# EAGLE library part BMP384 (library BMP384)
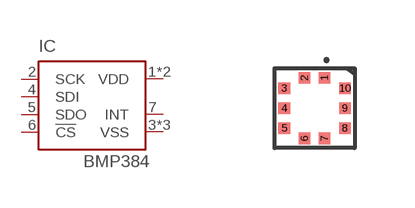
[diagram p0: symbol with the pads of BMP384; footprint BMP384]

Designator prefix IC

## BMP384  [BMP384]
1  VDD
2  SCK  in
3  VSS
4  SDI
5  SDO
6  !CS
7  INT  out
8  VSS
9  VSS
10  VDD

## Footprint BMP384 (pad centres in mm)
smd 0.28 x 0.29: 1 0.25,0.757; 2 -0.25,0.757; 6 -0.25,-0.757; 7 0.25,-0.757
smd 0.29 x 0.28: 3 -0.757,0.5; 4 -0.757,0; 5 -0.757,-0.5; 8 0.757,-0.5; 9 0.757,0; 10 0.757,0.5